# Altium schematic symbol library Diodes.SchLib: 41 symbols
Pins are listed as number, name and electrical type; pins without a type are passive.

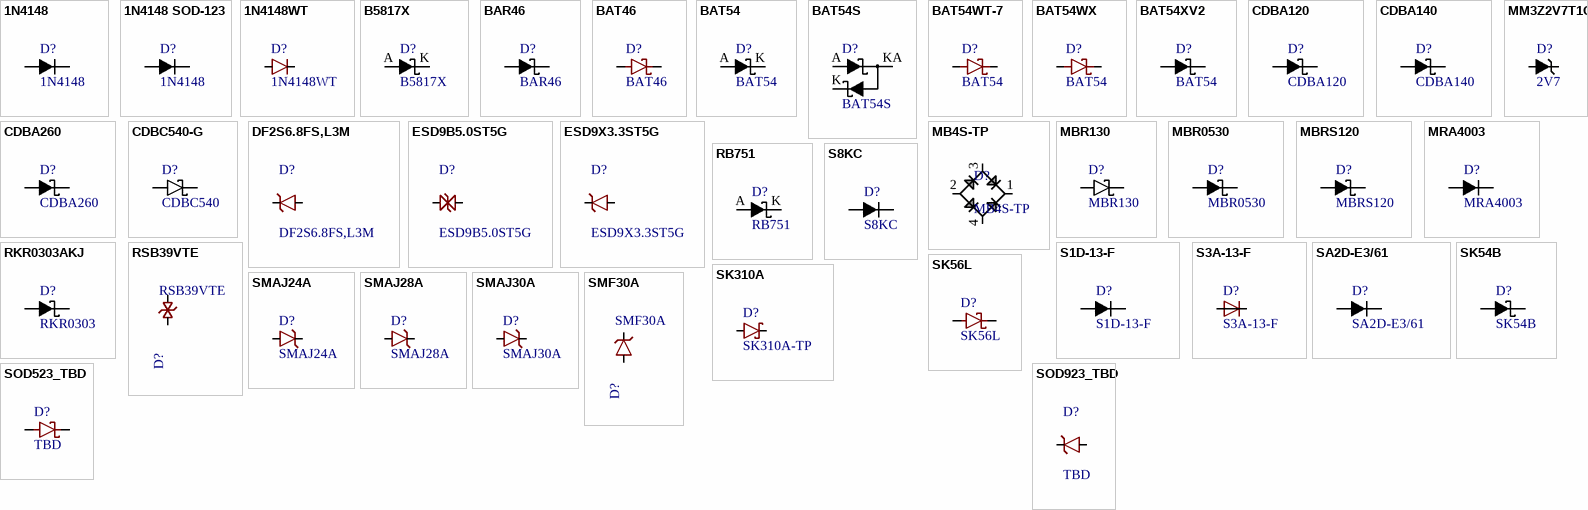
[diagram p0: symbols 1N4148 to SOD923_TBD]

## 1N4148
designator D?
DIODE 75V 150MA SOD323F; MANUFACTURER: FAIRCHILD; MANUFACTURER #: 1N4148WS; PART: 1N4148; DISTRIBUTOR: DIGI-KEY; DISTRIBUTOR #: 1N4148WSFSCT-ND; COST: 0.0881@ 100pcs
footprint SOD-323F
pins: A ANODE, K CATHODE

## 1N4148 SOD-123
designator D?, comment 1N4148
DIODE GEN PURP 100V 150MA SOD123; MANUFACTURER: MCC; MANUFACTURER #: 1N4148W-TP; VOLTAGE: 75Vr; PART: 1N4148; DISTRIBUTOR: DIGI-KEY; DISTRIBUTOR #: 1N4148WTPMSCT-ND; COST: 0.0881@ 100pcs
footprint SOD-123
pins: A ANODE, K CATHODE

## 1N4148WT
designator D?
DIODE SOD523; MANUFACTURER: Fairchild; Part Description: DIODE GEN PURP 75V 200MA SOD523F; EE_SPEC: 75V 0.2A; Tolerance: NA; Value: 1N4148WT; DISTRIBUTOR #: 1N4148WTTR-ND; DISTRIBUTOR: Digi-Key; MANUFACTURER #: 1N4148WT; PART: 1N4148WT
footprint SOD523_
pins: A, K

## B5817X
designator D?
DIODE SCHOTTKY 20V 1A SOD523; MANUFACTURER: MCC; MANUFACTURER #: B5817X-TP; Part Description: Diode Schottky 1A Surface Mount SOD-523; PART: DIODE SCHOTTKY 20V 1A SOD523; DISTRIBUTOR: DIGI-KEY; DISTRIBUTOR #: B5817X-TP; COST: 0.04975 @ 3k; VOLTAGE: 20V
footprint SOD523_IPC
pins: A, K

## BAR46
designator D?
DIODE SCHOTTKY 100V 0.15A SOT23; MANUFACTURER: ST; MANUFACTURER #: BAR46FILM; PART: BAR46; DISTRIBUTOR: DIGI-KEY; DISTRIBUTOR #: 497-12128-1-ND; COST: 0.11 @ 250pcs; VOLTAGE: 100V
footprint SOT-23-DIODE
pins: A, K

## BAT46
designator D?
DIODE SCHOTTKY 100V 150MA SOD323; MANUFACTURER: ST; MANUFACTURER #: BAT46JFILM; PART: Schottky Diode; PART DESCRIPTION: Diode Schottky 100V 150mA (DC) Surface Mount SOD-323; TOLERANCE: -NA-; VALUE: BAT46; DISTRIBUTOR #: 497-6653-2-ND; DISTRIBUTOR: Digikey; EE_SPEC: 100V 150mA
footprint SOD323-D_ALT
pins: A, K

## BAT54
designator D?
DIODE SCHOTTKY 30V 0.2A SOT23-3; MANUFACTURER: FAIRCHILD; PART: BAT54; MANUFACTURER #: BAT54; DISTRIBUTOR: DIGI-KEY; DISTRIBUTOR #: BAT54FSCT-ND; COST: 0.05 @ 250pcs
footprint SOT-23-DIODE
pins: A, K

## BAT54S
designator D?
DIODE SCHOTTKY 30V 200MA SOT23; MANUFACTURER: ON SEMI; MANUFACTURER #: BAT54SLT1G; PART: BAT54S; DISTRIBUTOR: DIGI-KEY; DISTRIBUTOR #: BAT54SLT1GOSCT-ND; COST: 0.07 @ 250pcs
footprint SOT-23-DIODE-BAT54S
pins: A, K, KA

## BAT54WT-7
designator D?, comment BAT54
Diode Schottky 30V 100mA Surface Mount SOD-523; Manufacturer: Diodes Incorporated; MANUFACTURER #: BAT54WT-7; EE_SPEC: 30V 0.1A; Tolerance: NA; Value: BAT54; DISTRIBUTOR #: BAT54WT-7DI-ND; DISTRIBUTOR: Digi-Key; PART: BAT54; Part Description: Diode Schottky 30V 100mA Surface Mount SOD-523
footprint SOD523_
footprint SOD523_IPC
pins: A, K

## BAT54WX
designator D?, comment BAT54
DIODE SCHOTTKY 30V 200MA SOD523; MANUFACTURER: Diodes Incorporated; MANUFACTURER #: BAT54WX-TP; PART: Schottky Diode; PART DESCRIPTION: Diode Schottky 30V 200mA (DC) Surface Mount SOD-523; TOLERANCE: -NA-; VALUE: BAT54; DISTRIBUTOR #: BAT54WX-TPTR-ND; DISTRIBUTOR: Digikey; EE_SPEC: 30V 200mA
footprint SOD523_IPC
pins: A, K

## BAT54XV2
designator D?, comment BAT54
DIODE SCHOTTKY 30V 200MA SOD523F; MANUFACTURER: FAIRCHILD; MANUFACTURER #: BAT54XV2; PART: BAT54; DISTRIBUTOR: DIGI-KEY; DISTRIBUTOR #: BAT54XV2CT-ND; COST: 0.12 @ 100pcs
footprint SOD-523F
pins: A ANODE, K CATHODE

## CDBA120
designator D?
DIODE SCHOTTKY 20V 1A SMA; MANUFACTURER: Comchip; MANUFACTURER #: CDBA120-G; PART: CDBA120; DISTRIBUTOR: DIGI-KEY; DISTRIBUTOR #: 641-1014-1-ND; COST: 0.1514 @ 100pcs
footprint DO-214AC-SMA
pins: A ANODE, K CATHODE

## CDBA140
designator D?
DIODE SCHOTTKY 40V 1A DO214AC; MANUFACTURER: Comchip; MANUFACTURER #: CDBA140-G; PART: CDBA140; DISTRIBUTOR: DIGI-KEY; DISTRIBUTOR #: 641-1015-1-ND; COST: 0.1875 @ 100pcs
footprint SMA_SMALL
pins: A ANODE, K CATHODE

## CDBA260
designator D?
DIODE SCHOTTKY 60V 2A DO214AC; MANUFACTURER: Comchip; MANUFACTURER #: CDBA260-G; PART: CDBA260; DISTRIBUTOR: DIGI-KEY; DISTRIBUTOR #: 641-1097-1-ND; COST: 0.253 @ 100pcs
footprint SMA_SMALL
pins: A ANODE, K CATHODE

## CDBC540-G
designator D?, comment CDBC540
DIODE SCHOTTKY 40V 5A DO214AB; Manufacturer: Comchip; MANUFACTURER #: CDBC540-G; Part Description: Diode Schottky 40V 5A Surface Mount DO-214AB (SMC); EE_SPEC: 40V 5A; Tolerance: NA; Value: CDBC540; DISTRIBUTOR #: 641-1126-1-ND; DISTRIBUTOR: Digi-Key; PART: CDBC540
footprint SMC_COMCHIP
pins: A, K

## DF2S6.8FS,L3M
designator D?
TVS DIODE 5V 9V SOD923; MANUFACTURER: Toshiba; EE_SPEC: 5Vso; MANUFACTURER #: DF2S6.8FS,L3M; PART DESCRIPTION: TVS DIODE 5V 9V SOD923; VALUE: 5V
footprint SOD923-D (SODFL, 2-Leads, Body 0.60x1.00mm, IPC Medium Density)
pins: A, K

## ESD9B5.0ST5G
designator D?
TVS DIODE BIDIR 5VWM SOD923; MANUFACTURER: On Semi; TOLERANCE: -NA-; VALUE: 5V; EE_SPEC: 5Vso 15pF; MANUFACTURER #: ESD9B5.0ST5G; PART DESCRIPTION: TVS DIODE BIDIR 5VWM SOD923
footprint SOD923-D (SODFL, 2-Leads, Body 0.60x1.00mm, IPC Medium Density)
pins: A, K

## ESD9X3.3ST5G
designator D?
TVS DIODE 3.3VWM 10.4VC SOD923; MANUFACTURER: On Semi; PART DESCRIPTION: TVS DIODE 3.3VWM SOD923; TOLERANCE: -NA-; VALUE: 3.3V; EE_SPEC: 3.3Vso 15pF; MANUFACTURER #: ESD9X3.3ST5G; DISTRIBUTOR #: ESD9X3.3ST5GOSCT-ND; DISTRIBUTOR: Digikey
footprint SOD923-D (SODFL, 2-Leads, Body 0.60x1.00mm, IPC Medium Density)
pins: A, K

## MB4S-TP
designator D?
BRIDGE RECT 1P 400V 500MA MBS-1; MANUFACTURER: Micro Commercial; Part Description: Bridge Rectifier Single Phase Standard 400V Surface Mount MBS-1; EE_SPEC: 400V 50ma; Value: MB4S-TP; MANUFACTURER #: MB4S-TP; PART: MB4S-TP
footprint TO-269AA, 4-BESOP
pins: 1 (power), 2 (power) "1", 3 (power) "1", 4 (power) "1"

## MBR130
designator D?
PIV 30V IO 1A VF 0 45V PACKAGE S; Manufacturer: SMC Diode Solutions; MANUFACTURER #: MBR130HWTR; Part Description: Diode Schottky 30V 1A Surface Mount SOD-123; EE_SPEC: 30V 1A; Tolerance: NA; Value: MBR130; DISTRIBUTOR #: 1655-1437-1-ND; DISTRIBUTOR: Digi-Key; PART: MBR130
pins: A, K

## MBR0530
designator D?
DIODE SCHOTTKY 30V 500MA SOD123; MANUFACTURER: Fairchild; PART: MBR0530; MANUFACTURER #: MBR0530; DISTRIBUTOR: DIGI-KEY; DISTRIBUTOR #: MBR0530CT-ND; COST: 0.1456 @ 100pcs; VOLTAGE: 30V
footprint SOD-123
pins: A ANODE, K CATHODE

## MBRS120
designator D?
DIODE SCHOTTKY 20V 1A SMB; MANUFACTURER: On Semi; MANUFACTURER #: MBRS120T3G; PART: MBRS120; DISTRIBUTOR: DIGI-KEY; DISTRIBUTOR #: MBRS120T3GOSCT-ND; COST: 0.209 @ 100pcs; VOLTAGE: 20V
footprint SMB (Molded Diode, 2-Leads, Body 4.33x3.63mm, IPC High Density)
pins: A ANODE, K CATHODE

## MM3Z2V7T1G
designator D?, comment 2V7
DIODE ZENER 2.7V 300MW SOD323; PART: MM3Z2V7T1G; MANUFACTURER: ON SEMI; PART DESCRIPTION: Zener Diode 2.7V 300mW ±7% Surface Mount SOD-323; MANUFACTURER #: MM3Z2V7T1G; DISTRIBUTOR: DIGI-KEY; DISTRIBUTOR #: MM3Z2V7T1GOSTR-ND; VOLTAGE: 2V7
footprint SOD323
pins: A ANODE, K CATHODE

## MRA4003
designator D?
DIODE GEN PURPOSE 300V 1A SMA; MANUFACTURER: ON SEMI; MANUFACTURER #: MRA4003T3G; PART: MRA4003; DISTRIBUTOR: DIGI-KEY; DISTRIBUTOR #: MRA4003T3GOSCT-ND; COST: 0.1864 @ 25pcs
footprint SMA_SMALL
pins: A ANODE, K CATHODE

## RB751
designator D?
DIODE SCHOTTKY 40V 30MA SOD323F; MANUFACTURER: Taiwan Semiconductor Corporation; MANUFACTURER #: RB751V-40WS RRG; PART: DIODE SCHOTTKY 40V 30MA SOD323F; DISTRIBUTOR: DIGI-KEY; DISTRIBUTOR #: RB751V-40WS RRGCT-ND; VOLTAGE: 40V
footprint SOD323
pins: A, K

## RKR0303AKJ
designator D?, comment RKR0303
DIODE SCHOTTKY 30V 300MA UFP; MANUFACTURER: RENESAS; MANUFACTURER #: RKR0303AKJ#R6; PART: RKR0303; DISTRIBUTOR: DIGI-KEY; DISTRIBUTOR #: RKR0303AKJ#R6CT-ND; COST: 0.23 @ 100pcs
pins: A ANODE, K CATHODE

## RSB39VTE
designator D?
TVS DIODE BiDIR 30VWM SOD323; MANUFACTURER: Rohm; MANUFACTURER #: RSB39VTE-17; TOLERANCE: -NA-; EE_SPEC: 30Vrs 35Vc BiDIR; VALUE: -NA-; DISTRIBUTOR #: RSB39VTE-17TR-ND; DISTRIBUTOR: Digikey; PART: RSB39VTE; PART DESCRIPTION: TVS DIODE BiDIR 30VWM SOD323
footprint SOD323-D
pins: 1, 2

## S1D-13-F
designator D?
DIODE GEN PURPOSE 200V 1A SMA; MANUFACTURER: DIODES INC; PART: S1D-13-F; MANUFACTURER #: S1D-13-F; DISTRIBUTOR: DIGI-KEY; DISTRIBUTOR #: S1D-FDICT-ND; COST: 0.116 @ 250
footprint SMA
pins: A ANODE, K CATHODE

## S3A-13-F
designator D?
DIODE DO-214AB; MANUFACTURER: Diodes Incorporated; PART: Diode 50V 3A; PART DESCRIPTION: Diode Standard 50V 3A Surface Mount SMC; TOLERANCE: -NA-; EE_SPEC: 50V 3A; VALUE: S3A-13-F; MANUFACTURER #: S3A-13-F; DISTRIBUTOR #: S3A-FDITR-ND; DISTRIBUTOR: Digikey
footprint DO-214AB
pins: A, C

## S8KC
designator D?
DIODE GEN PURPOSE 800V 8A SMC; MANUFACTURER: DIODES INC; MANUFACTURER #: S8KC-13; VOLTAGE: Vf = 0.985v @ 8A; PART: S8KC; DISTRIBUTOR: DIGI-KEY; DISTRIBUTOR #: S8KCDICT-ND; COST: 0.05104 @ 50pcs
footprint DO-214AB-SMC
pins: A ANODE, K CATHODE

## SA2D-E3/61
designator D?
DIODE GEN PURP 200V 2A DO214AC; MANUFACTURER: VISHAY; PART: SA2D-E3/61; MANUFACTURER #: SA2D-E3/61; DISTRIBUTOR: DIGI-KEY; DISTRIBUTOR #: SA2D-E3/61TGICT-ND; COST: 0.19 @ 100; VOLTAGE: 200V
footprint SMA
pins: A ANODE, K CATHODE

## SK54B
designator D?
DIODE SCHOTTKY 40V 5A SMB_DO214AA; MANUFACTURER: MCC; MANUFACTURER #: SK54B-LTP; VOLTAGE: 40Vrb; PART: SK54B; DISTRIBUTOR: DIGI-KEY; DISTRIBUTOR #: SK54B-LTPMSTR-ND
footprint SMB_DO-214AA_LRG
pins: A ANODE, K CATHODE

## SK56L
designator D?
DIODE SCHOTTKY 60V 5A DO214AB; MANUFACTURER: MCC; MANUFACTURER #: SK56L-TP; Part Description: Diode Schottky 60V 5A Surface Mount DO-214AB, (SMC); EE_SPEC: 60V 5A; Tolerance: NA; Value: SK56L; DISTRIBUTOR #: SK56L-TPMSCT-ND; DISTRIBUTOR: Digi-Key; PART: DIODE SCHOTTKY 60V 5A DO214AB
footprint SMC
pins: A, K

## SK310A
designator D?, comment SK310A-TP
DIODE Schottky 3A SMA; MANUFACTURER: MCC; MANUFACTURER #: SK310A; PART: Schottky Diode 100V 3A; PART DESCRIPTION: Diode Schottky 100V 3A Surface Mount DO-214AC (HSMA); TOLERANCE: -NA-; VALUE: -NA-; EE_SPEC: 100V 3A; DISTRIBUTOR #: SK310A-TPTR-ND; DISTRIBUTOR: Digikey
footprint SMA-SM
pins: A, K

## SMAJ24A
designator D?
TVS DIODE 24V 38.9V SMA; Manufacturer: Bourns Inc; EE_SPEC: 24Vrs 38.9Vc; MANUFACTURER #: SMAJ24A; DISTRIBUTOR #: SMAJ24ABTR-ND; DISTRIBUTOR: Digi-Key; Part Description: TVS DIODE 24V 38.9V SMA; VALUE: SMAJ24A
footprint SMA-SM
pins: A, K

## SMAJ28A
designator D?
TVS DIODE 28VWM 45.4VC SMA; Manufacturer: Diodes Inc; MANUFACTURER #: SMAJ28A-13-F; EE_SPEC: 28Vrs 45.4Vc; Tolerance: NA; DISTRIBUTOR #: SMAJ28A-FDITR-ND; DISTRIBUTOR: Digi-Key; PART: SMAJ28A; Part Description: TVS DIODE 28VWM 45.4VC SMA; VALUE: SMAJ28A
footprint SMA-SM
pins: A, K

## SMAJ30A
designator D?
DIODE TVS 30V SMA; Manufacturer: Littelfuse; Part Description: TVS DIODE 30VWM 48.4VC SMA; EE_SPEC: 30Vrs 48.4Vc; Tolerance: NA; MANUFACTURER #: SMAJ30A; DISTRIBUTOR #: SMAJ30ALFTR-ND; DISTRIBUTOR: Digi-Key; PART: SMAJ30A; VALUE: SMAJ30A
footprint SMA-SM
pins: A, K

## SMF30A
designator D?
TVS DIODE 30VWM 48.4VC SMF; MANUFACTURER: Vishay; MANUFACTURER #: SMF30A-E3-08; PART: TVS Diode 48.4VC; TOLERANCE: -NA-; EE_SPEC: 30Vrs 48.4Vc; DISTRIBUTOR #: SMF30A-E3-08GITR-ND; DISTRIBUTOR: Digikey; PART DESCRIPTION: TVS DIODE 30VWM 48.4VC SMF; VALUE: SMF30A
footprint SMF (Molded Diode, 2-Leads, Body 2.80x1.80mm, IPC High Density)
pins: A, K

## SOD523_TBD
designator D?, comment TBD
TOLERANCE: -NA-; MANUFACTURER: TBD; VALUE: TBD; MANUFACTURER #: TBD; EE_SPEC: TBD
footprint SOD523_IPC
pins: A, K

## SOD923_TBD
designator D?, comment TBD
MANUFACTURER #: TBD; VALUE: TBD; EE_SPEC: TBD
footprint SOD923-D (SODFL, 2-Leads, Body 0.60x1.00mm, IPC Medium Density)
pins: A, K

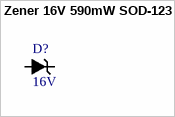
[diagram p1: symbol Zener 16V 590mW SOD-123]

## Zener 16V 590mW SOD-123
designator D?, comment 16V
DIODE ZENER 16V 590MW SOD123; PART: BZT52-B16J; MANUFACTURER: Nexperia; PART DESCRIPTION: Zener Diode 16V 590mW ±1.88% Surface Mount SOD-123; MANUFACTURER #: BZT52-B16J; VOLTAGE: 16V
footprint SOD123 - Medium density (SODFL, 2-Leads, Body 1.60x3.70mm, IPC Medium Density)
pins: 1 CATHODE, 2 ANODE